# Altium schematic symbol library IND,1uH,2.5A,Molded,1008.Schlib: 1 symbol
Pins are listed as number, name and electrical type; pins without a type are passive.

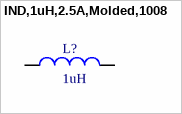
[diagram p0: symbol IND,1uH,2.5A,Molded,1008]

## IND,1uH,2.5A,Molded,1008
designator L?, comment 1uH
1 µH Shielded Molded Inductor 2.5 A 75mOhm Max 1008 (2520 Metric)
pins: 1, 2